# Altium schematic symbol library FET.Schlib: 4 symbols
Pins are listed as number, name and electrical type; pins without a type are passive.

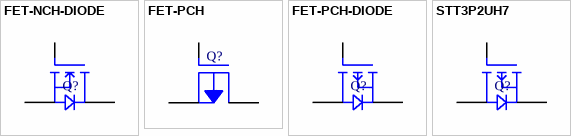
[diagram p0: symbols FET-NCH-DIODE to STT3P2UH7]

## FET-NCH-DIODE
designator Q?  (value not drawn)
pins: 1, 2, 3

## FET-PCH
designator Q?  (value not drawn)
pins: 1, 2, 3

## FET-PCH-DIODE
designator Q?  (value not drawn)
pins: 1, 2, 3

## STT3P2UH7
designator Q?  (value not drawn)
pins: 1, 2, 3, 4, 5, 6